# Altium footprint library Components.PcbLib: 17 footprints (part 1 of 2)
Each footprint in its own frame and in the unit in brackets; x right, y up, seen from the top. Pads: shape width x height; smd on the part's side, far side on the other; paste and mask are expansions set on the pad; w line width, h text height; cw(c..) or ccw(c..) is an arc to the next point about the centre after c.
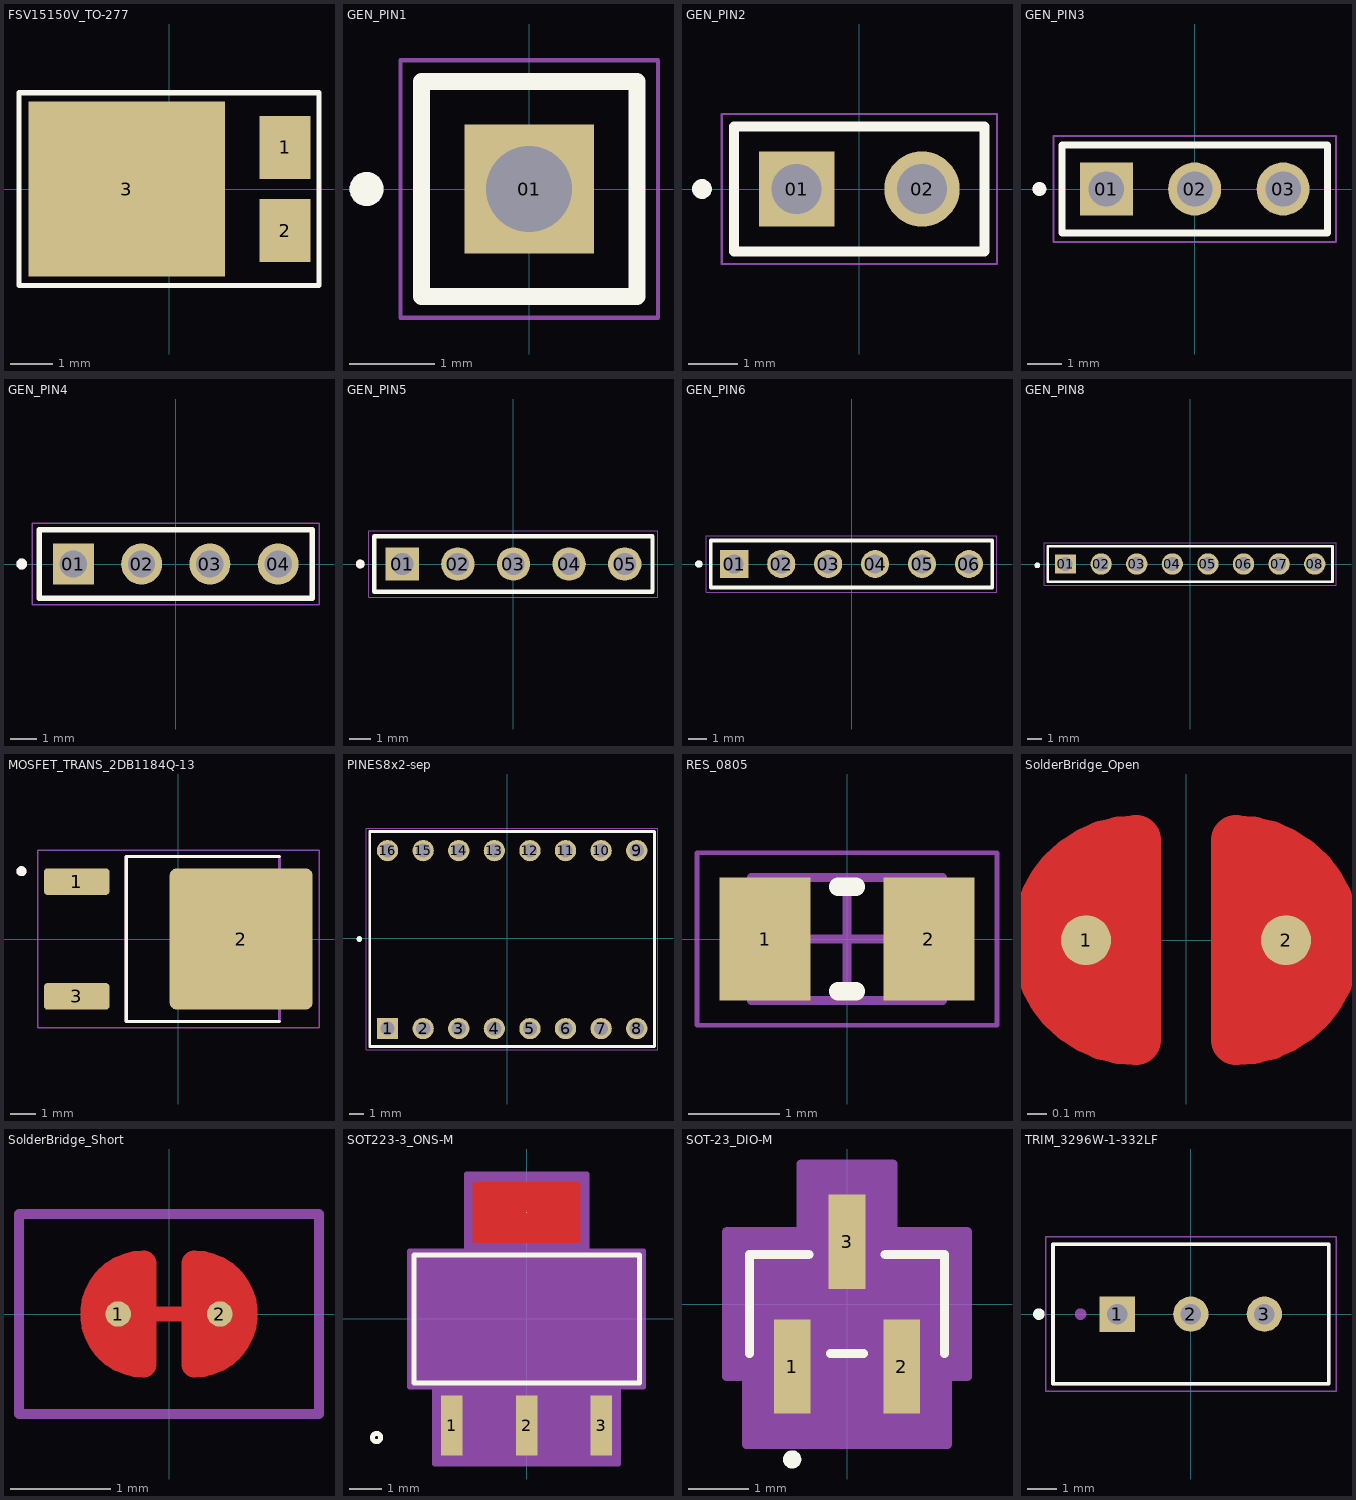
[diagram p0: the footprints below, top view; thin cyan lines are the x and y axes]

## FSV15150V_TO-277 [mm]
pads (3):
  rect 1.2x1.5 smd: 1(2.75,0.985) 2(2.75,-0.985)
  rect 4.65x4.15 smd: 3(-1,0)
Top Overlay:
  lines w0.127: -3.556,-2.286 -3.556,2.286 3.556,2.286 3.556,-2.286 -3.556,-2.286
3D body "step_temp.STEP": height 1.2, standoff 0, extent -3.25,-2.22 3.25,2.22

## GEN_PIN1 [mil] "Generic 40 mils drill size, 100 mils step"
pads (1):
  rect 60x60 / inner round 60 / far side rect 60x60 hole 40: 01(0,0)
Top Overlay:
  circle w7.87: c-75.59,0 r3.94
  lines w7.87: -50,-50 -50,50 50,50 50,-50 -50,-50
Mechanical 13:
  circle w7.87: c-75.59,0 r3.94
  lines w3.94: -50,-50 -50,50 ; -50,-50 50,-50 ; -50,-50 -50,50 ; -50,50 50,50 ; -50,50 50,50 ; 50,-50 50,50 ; 50,-50 50,50
Mechanical 15:
  lines w1.97: -59.84,-59.84 -59.84,59.84 59.84,59.84 59.84,-59.84 -59.84,-59.84
3D body "Download_STP_61300111121+(rev1).stp": height 337.4, standoff -116.93, extent -50,-50 50,50

## GEN_PIN2 [mil] "Generic 40 mils drill size, 100 mils step"
pads (2):
  rect 60x60 / inner round 60 / far side rect 60x60 hole 40: 01(-50,0)
  round 60 hole 40: 02(50,0)
Top Overlay:
  circle w7.87: c-125.59,0 r3.94
  lines w7.87: -100,-50 100,-50 100,50 -100,50 -100,-50
Mechanical 13:
  circle w7.87: c-125.59,0 r3.94
  lines w3.94: -100,-50 -100,50 ; -100,-50 100,-50 ; -100,-50 -100,50 ; -100,50 100,50 ; -100,50 100,50 ; 100,-50 100,50 ; 100,-50 100,50
Mechanical 15:
  lines w1.97: -109.84,-59.84 109.84,-59.84 109.84,59.84 -109.84,59.84 -109.84,-59.84
3D body "Download_STP_61300211121+(rev1).stp": height 337.4, standoff -116.93, extent -100,-50 100,50

## GEN_PIN3 [mil] "Generic 40 mils drill size, 100 mils step"
pads (3):
  rect 60x60 / inner round 60 / far side rect 60x60 hole 40: 01(-100,0)
  round 60 hole 40: 02(0,0) 03(100,0)
Top Overlay:
  circle w7.87: c-175.59,0 r3.94
  lines w7.87: -150,-50 -150,50 150,50 150,-50 -150,-50
Mechanical 13:
  circle w7.87: c-175.59,0 r3.94
  lines w3.94: -150,-50 -150,50 ; -150,-50 150,-50 ; -150,-50 -150,50 ; -150,50 150,50 ; -150,50 150,50 ; 150,-50 150,50 ; 150,-50 150,50
Mechanical 15:
  lines w1.97: -159.84,-59.84 -159.84,59.84 159.84,59.84 159.84,-59.84 -159.84,-59.84
3D body "Download_STP_61300311121+(rev1).stp": height 337.4, standoff -116.93, extent -150,-50 150,50

## GEN_PIN4 [mil] "Generic 40 mils drill size, 100 mils step"
pads (4):
  rect 60x60 hole 40: 01(-150,0)
  round 60 hole 40: 02(-50,0) 03(50,0) 04(150,0)
Top Overlay:
  circle w7.87: c-225.59,0 r3.94
  lines w7.87: -200,-50 -200,50 200,50 200,-50 -200,-50
Mechanical 13:
  circle w7.87: c-225.59,0 r3.94
  lines w3.94: -200,-50 -200,50 ; -200,-50 200,-50 ; -200,-50 -200,50 ; -200,50 200,50 ; -200,50 200,50 ; 200,-50 200,50 ; 200,-50 200,50
Mechanical 15:
  lines w1.97: -209.84,-59.84 -209.84,59.84 209.84,59.84 209.84,-59.84 -209.84,-59.84
3D body "Download_STP_61300411121+(rev1).stp": height 337.4, standoff -116.93, extent -200,-50 200,50

## GEN_PIN5 [mil] "Generic 40 mils drill size, 100 mils step"
pads (5):
  rect 60x60 hole 40: 01(-200,0)
  round 60 hole 40: 02(-100,0) 03(0,0) 04(100,0) 05(200,0)
Top Overlay:
  circle w7.87: c-275.59,0 r3.94
  lines w7.87: -250,-50 -250,50 250,50 250,-50 -250,-50
Mechanical 13:
  circle w7.87: c-275.59,0 r3.94
  lines w3.94: -250,-50 -250,50 ; -250,-50 250,-50 ; -250,-50 -250,50 ; -250,50 250,50 ; -250,50 250,50 ; 250,-50 250,50 ; 250,-50 250,50
Mechanical 15:
  lines w1.97: -259.84,-59.84 -259.84,59.84 259.84,59.84 259.84,-59.84 -259.84,-59.84
3D body "Download_STP_61300511121+(rev1).stp": height 337.4, standoff -116.93, extent -250,-50 250,50

## GEN_PIN6 [mil] "Generic 40 mils drill size, 100 mils step"
pads (6):
  rect 60x60 / inner round 60 / far side rect 60x60 hole 40: 01(-250,0)
  round 60 hole 40: 02(-150,0) 03(-50,0) 04(50,0) 05(150,0) 06(250,0)
Top Overlay:
  circle w7.87: c-325.59,0 r3.94
  lines w7.87: -300,-50 -300,50 300,50 300,-50 -300,-50
Mechanical 13:
  circle w7.87: c-325.59,0 r3.94
  lines w3.94: -300,-50 -300,50 ; -300,-50 300,-50 ; -300,-50 -300,50 ; -300,50 300,50 ; -300,50 300,50 ; 300,-50 300,50 ; 300,-50 300,50
Mechanical 15:
  lines w1.97: -309.84,-59.84 -309.84,59.84 309.84,59.84 309.84,-59.84 -309.84,-59.84
3D body "Download_STP_61300611121+(rev1).stp": height 337.4, standoff -116.93, extent -300,-50 300,50

## GEN_PIN8 [mil] "Generic 40 mils drill size, 100 mils step"
pads (8):
  rect 60x52 / inner oval 60x52 / far side rect 60x52 hole 40: 01(-350,0)
  round 60 hole 40: 02(-250,0) 03(-150,0) 04(-50,0) 05(50,0) 06(150,0) 07(250,0) 08(350,0)
Top Overlay:
  circle w7.87: c-429.13,-3.94 r3.94
  lines w7.87: -400,-50 -400,50 400,50 400,-50 -400,-50
Mechanical 13:
  circle w7.87: c-429.13,-3.94 r3.94
  lines w3.94: -400,-50 400,-50 400,50 -400,50 -400,-50
Mechanical 15:
  lines w1.97: -409.84,-59.84 409.84,-59.84 409.84,59.84 -409.84,59.84 -409.84,-59.84
3D body "61300811121+(rev1).stp": height 337.4, standoff -116.93, extent -400,-50 400,50

## MOSFET_TRANS_2DB1184Q-13 [mm]
pads (3):
  rrect25% 2.6x1.06 smd: 1(-4.05,2.286) 3(-4.05,-2.286)
  rrect10% 5.7x5.632 smd paste-4: 2(2.5,0)
Top Overlay:
  circle w0.2: c-6.25,2.7 r0.1
  lines w0.127: 4.025,-3.29 -2.075,-3.29 -2.075,3.29 4.025,3.29
Top Paste:
  region: 3.175,-0.66 1.825,-0.66 1.825,0.66 3.175,0.66
  region: 1.275,-0.66 -0.075,-0.66 -0.075,0.66 1.275,0.66
  region: 5.075,-0.66 3.725,-0.66 3.725,0.66 5.075,0.66
  region: 3.175,1.21 1.825,1.21 1.825,2.53 3.175,2.53
  region: 1.275,1.21 -0.075,1.21 -0.075,2.53 1.275,2.53
  region: 5.075,1.21 3.725,1.21 3.725,2.53 5.075,2.53
  region: 3.175,-2.53 1.825,-2.53 1.825,-1.21 3.175,-1.21
  region: 1.275,-2.53 -0.075,-2.53 -0.075,-1.21 1.275,-1.21
  region: 5.075,-2.53 3.725,-2.53 3.725,-1.21 5.075,-1.21
Mechanical 13:
  circle w0.2: c-6.25,2.7 r0.1
  lines w0.127: -2.075,-3.29 -2.075,3.29 4.025,3.29 4.025,-3.29 -2.075,-3.29
Mechanical 15:
  lines w0.05: -5.6,-3.54 -5.6,3.54 5.6,3.54 5.6,-3.54 -5.6,-3.54
3D body "DMT10H010LK3-13.stp": height 2.29, standoff -0.09, extent -4.871,-3.291 5.05,3.29

## PINES8x2-sep [mil]
pads (16):
  rect 60x60 / inner round 60 / far side rect 60x60 hole 40: 1(-335.98,-253.15)
  round 60 hole 40: 2(-235.98,-253.15) 3(-135.98,-253.15) 4(-35.98,-253.15) 5(64.02,-253.15) 6(164.02,-253.15) 7(264.02,-253.15) 8(364.02,-253.15) 9(364.02,246.85) 10(264.02,246.85) 11(164.02,246.85) 12(64.02,246.85) 13(-35.98,246.85) 14(-135.98,246.85) 15(-235.98,246.85) 16(-335.98,246.85)
Top Overlay:
  circle w7.87: c-415.12,-1.48 r3.94
  lines w7.87: -385.98,-303.15 -385.98,300.2 414.02,300.2 414.02,-303.15 -385.98,-303.15
Mechanical 13:
  lines w3.94: -385.98,-303.15 414.02,-303.15 414.02,301.18 -385.98,301.18 -385.98,-303.15
  lines w7.87: -414.83,2.45 ccw(c-415.12,-1.48) -411.18,-1.48
Mechanical 15:
  lines w1.97: -395.83,-312.99 423.86,-312.99 423.86,310.04 -395.83,310.04 -395.83,-312.99
3D body "61300811821+%28rev1%29.stp": height 336.61, standoff -120.53, extent -394.09,198.82 425.59,297.24
3D body "61300811821+%28rev1%29.stp": height 336.61, standoff -120.53, extent -394.09,-301.18 425.59,-202.76
3D body "A4988 STEPPER MOTOR DRIVER CARRIER--3DModel-STEP-56544.STEP": height 570.58, standoff 102.58, extent -400,-300 400,300

## RES_0805 [mm] "Chip Resistor, 2-Leads, Body 2.00x1.25mm, IPC Medium Density"
height 0.6
pads (2):
  rect 1x1.35 smd: 1(-0.9,0) 2(0.9,0)
Top Overlay:
  lines w0.2: -0.1,-0.575 0.1,-0.575 ; -0.1,0.575 0.1,0.575
Top Courtyard:
  lines w0.05: -1.65,-0.95 -1.65,0.95 1.65,0.95 1.65,-0.95 -1.65,-0.95
  lines w0.1: -0.5,0 0.5,0 ; 0,-0.5 0,0.5
Top Assembly:
  lines w0.1: -1.05,-0.675 -1.05,0.675 1.05,0.675 1.05,-0.675 -1.05,-0.675
3D body: height 0.6, standoff 0, extent -0.7,-0.675 0.7,0.675
3D body: height 0.6, standoff 0, extent -1.05,-0.675 -0.7,0.675
3D body: height 0.6, standoff 0, extent 0.7,-0.675 1.05,0.675

## SolderBridge_Open [mil]
pads (2):
  round 10 smd mask+0: 1(-20,0) 2(20,0)
Top Layer:
  region: 10,20 21.96,18.4 29.53,10.83 29.53,-9.84 19.37,-20 10,-20
  region: -9.02,-19.51 -20.97,-17.9 -28.54,-10.33 -28.54,10.33 -18.39,20.49 -9.02,20.49
  lines w10: -10,-20 cw(c-10,0) -10,20 -10,-20 ; 10,-20 ccw(c10,0) 10,20 10,-20
Top Solder:
  circle w29: c-10,0 r11
  circle w29: c10,0 r11
  lines w10: -9.02,20.49 9.51,20.49
  lines w11: -10,-20 10,-20

## SolderBridge_Short [mil]
pads (2):
  round 10 smd mask+0: 1(-20,0) 2(20,0)
Top Layer:
  region: 10,20 21.96,18.4 29.53,10.83 29.53,-9.84 19.37,-20 10,-20
  region: -9.02,-19.51 -20.97,-17.9 -28.54,-10.33 -28.54,10.33 -18.39,20.49 -9.02,20.49
  lines w6: -10,0 10,0
  lines w10: -10,-20 cw(c-10,0) -10,20 -10,-20 ; 10,-20 ccw(c10,0) 10,20 10,-20
Top Solder:
  circle w29: c-10,0 r15
  circle w29: c10,0 r15
  lines w10: -9.02,24.49 9.51,24.49
  lines w11: -10,-24 10,-24
Top Courtyard:
  lines w3.94: -59.06,-39.37 59.06,-39.37 59.06,39.37 -59.06,39.37 -59.06,-39.37
Bottom Courtyard:
  lines w3.94: -59.06,-39.37 59.06,-39.37 59.06,39.37 -59.06,39.37 -59.06,-39.37

## SOT223-3_ONS-M [mil]
pads (4):
  rect 26x73 smd paste+0 mask+0: 1(-90.5,-129) 2(0,-129) 3(90.5,-129)
  round 1 smd: 4(0,129)
Top Layer:
  region: 65,92.5 65,165.5 -65,165.5 -65,92.5
Top Overlay:
  circle w6: c-181.5,-143.5 r5
  lines w6: -136.5,-77.5 -136.5,77.5 136.5,77.5 136.5,-77.5 -136.5,-77.5
Top Paste:
  region: 65,92.5 65,165.5 -65,165.5 -65,92.5
Top Solder:
  region: 67,74.5 67,187.5 -67,187.5 -67,74.5
Mechanical 13:
  circle w0: c-121.5,-62.5 r5
  lines w1: -131.5,-72.5 -131.5,72.5 131.5,72.5 131.5,-72.5 -131.5,-72.5 ; -101.5,-143.5 -79.5,-143.5 -79.5,-72.5 -101.5,-72.5 -101.5,-143.5 ; -63,72.5 -63,143.5 63,143.5 63,72.5 -63,72.5 ; -11,-143.5 11,-143.5 11,-72.5 -11,-72.5 -11,-143.5 ; 79.5,-143.5 101.5,-143.5 101.5,-72.5 79.5,-72.5 79.5,-143.5
Mechanical 15:
  region: -141.5,-82.5 -141.5,82.5 -73,82.5 -73,175.5 73,175.5 73,82.5 141.5,82.5 141.5,-82.5 111.5,-82.5 111.5,-175.5 -111.5,-175.5 -111.5,-82.5
  lines w6: -141.5,-82.5 -111.5,-82.5 -111.5,-175.5 111.5,-175.5 111.5,-82.5 141.5,-82.5 141.5,82.5 73,82.5 73,175.5 -73,175.5 -73,82.5 -141.5,82.5 -141.5,-82.5
3D body "SOT223-3_ONS.step": height 68.11, standoff 0, extent -131.5,-143.5 131.5,143.5

## SOT-23_DIO-M [mil]
pads (3):
  rect 24x62 smd paste+0 mask+0: 1(-36.02,-41) 2(36.02,-41) 3(0,41)
Top Overlay:
  circle w6: c-36.02,-102 r3
  lines w6: -64,-32.5 -64,32.5 -25.1,32.5 ; -10.92,-32.5 10.92,-32.5 ; 25.1,32.5 64,32.5 64,-32.5
Mechanical 13:
  circle w0: c-36.02,-17.5 r3
  lines w1: -59,-27.5 -59,27.5 59,27.5 59,-27.5 -59,-27.5 ; -46.02,-50 -26.02,-50 -26.02,-27.5 -46.02,-27.5 -46.02,-50 ; -10,27.5 -10,50 10,50 10,27.5 -10,27.5 ; 26.02,-50 46.02,-50 46.02,-27.5 26.02,-27.5 26.02,-50
Mechanical 15:
  region: -79,-47.5 -79,47.5 -30,47.5 -30,92 30,92 30,47.5 79,47.5 79,-47.5 66.02,-47.5 66.02,-92 -66.02,-92 -66.02,-47.5
  lines w6: -79,-47.5 -66.02,-47.5 -66.02,-92 66.02,-92 66.02,-47.5 79,-47.5 79,47.5 30,47.5 30,92 -30,92 -30,47.5 -79,47.5 -79,-47.5
3D body "SOT-23_DIO.step": height 45.12, standoff 0, extent -59.02,-50 59.02,50

## TRIM_3296W-1-332LF [mm]
pads (3):
  rect 1.218x1.218 / inner round 1.218 / far side rect 1.218x1.218 hole 0.71: 1(-2.54,0)
  round 1.218 hole 0.71: 2(0,0) 3(2.54,0)
Top Overlay:
  circle w0.2: c-5.25,0 r0.1
  lines w0.127: -4.765,-2.41 -4.765,2.42 4.765,2.42 4.765,-2.41 -4.765,-2.41
Mechanical 13:
  circle w0.2: c-3.81,0 r0.1
  lines w0.127: -4.765,-2.41 4.765,-2.41 4.765,2.42 -4.765,2.42 -4.765,-2.41
Mechanical 15:
  lines w0.05: -5.015,-2.66 5.015,-2.66 5.015,2.67 -5.015,2.67 -5.015,-2.66
3D body "step_temp.STEP": height 11.55, standoff -7.72, extent -4.765,-2.41 4.765,2.42